# Altium schematic symbol library PN-131.Schlib: 1 symbol
Pins are listed as number, name and electrical type; pins without a type are passive.

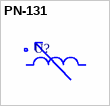
[diagram p0: symbol PN-131]

## PN-131
designator U?
PNI Sensor -Sen-XYZ-f sensor coils
pins: 1, 2